# Altium schematic symbol library CB3LV-3C-50M0000.SchLib: 1 symbol
Pins are listed as number, name and electrical type; pins without a type are passive.

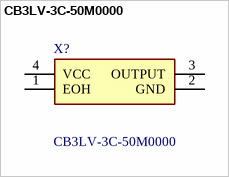
[diagram p0: symbol CB3LV-3C-50M0000]

## CB3LV-3C-50M0000
designator X?
Oscillator XO 50MHz +/-50ppm 50pF HCMOS/TTL 55% 3.3V 4-Pin SMD T/R; Manufacturer_Name: CTS; Geometry.Height: 1.8mm; Mouser Part Number: 774-CB3LV-3C-50M0; Mouser Price/Stock: https://www.mouser.co.uk/ProductDetail/CTS-Electronic-Components/CB3LV-3C-50M0000?qs=HL%252BYNjdyZ0uT6%252BfdJ%252BqvaA%3D%3D; Manufacturer_Part_Number: CB3LV-3C-50M0000; Datasheet Link: *
footprint CB3LV3C50M0000
pins: 1 EOH, 2 GND, 3 OUTPUT, 4 VCC